# Altium schematic symbol library Resistor_0805.SchLib: 257 symbols (part 5 of 5)
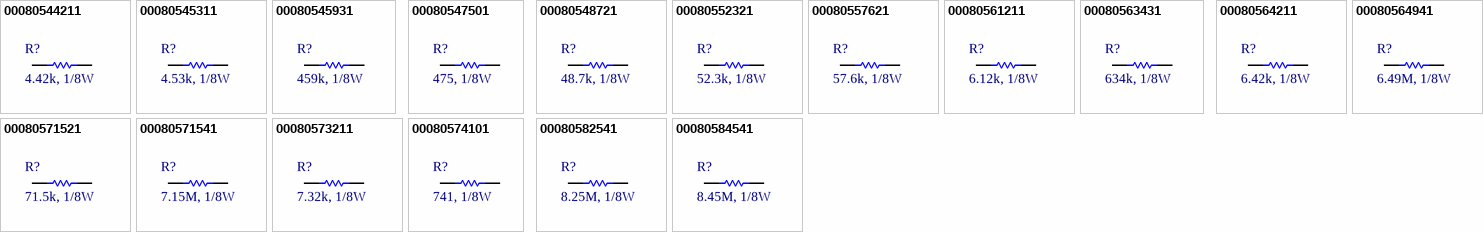
[diagram p10: symbols 00080544211 to 00080584541]

## 00080571521
designator R?, comment 71.5k, 1/8W
RES, 71.5k Ohm, size 0805, 1%; Resistance: 71.5 kOhms; Resistance Tolerance: +/-1%; Mounting Technique: SMT; Supply 1 Name: Digi-Key; Supply 1 SN: 311-71.5KCRTR-ND; Supply 2 Name: Mouser; Supply 2 SN: 603-RT0805FRE0771K5L; Size: 0805; Rated Power: 1/8W; Supply 1 URL: https://www.digikey.com/en/products/detail/yageo/RC0805FR-0771K5L/728125; Supply 2 URL: https://www.mouser.vn/ProductDetail/YAGEO/RT0805FRE0771K5L?qs=yNCrj0CQcyJ2X5%252BJTRHZxw%3D%3D
footprint RESC2012X04N (Chip Resistor, 2-Leads, Body 2,00x1,20mm, IPC Medium Density)
pins: 1, 2

## 00080571541
designator R?, comment 7.15M, 1/8W
RES, 7.15M Ohm, size 0805, 1%; Resistance: 7.15 MOhms; Resistance Tolerance: +/-1%; Mounting Technique: SMT; Supply 1 Name: Digi-Key; Supply 1 SN: 311-7.15MCRTR-ND; Size: 0805; Rated Power: 1/8W; Supply 1 URL: https://www.digikey.com/en/products/detail/yageo/RC0805FR-077M15L/728111; Supply 2 Name: *; Supply 2 SN: *; Supply 2 URL: *
footprint RESC2012X04N (Chip Resistor, 2-Leads, Body 2,00x1,20mm, IPC Medium Density)
pins: 1, 2

## 00080573211
designator R?, comment 7.32k, 1/8W
RES, 7.32k Ohm, size 0805, 1%; Resistance: 7.32 kOhms; Resistance Tolerance: +/-1%; Mounting Technique: SMT; Supply 1 Name: Digi-Key; Supply 1 SN: 311-7.32KCRTR-ND; Supply 2 Name: Mouser; Supply 2 SN: 603-RT0805FRE077K32L; Size: 0805; Rated Power: 1/8W; Supply 1 URL: https://www.digikey.com/en/products/detail/yageo/RC0805FR-077K32L/728113; Supply 2 URL: https://www.mouser.vn/ProductDetail/YAGEO/RT0805FRE077K32L?qs=yNCrj0CQcyL5VeJfozhHUw%3D%3D
footprint RESC2012X04N (Chip Resistor, 2-Leads, Body 2,00x1,20mm, IPC Medium Density)
pins: 1, 2

## 00080574101
designator R?, comment 741, 1/8W
RES, 741 Ohm, size 0805, 1%; Resistance: 741 Ohms; Resistance Tolerance: +/-1%; Mounting Technique: SMT; Supply 1 Name: Digi-Key; Supply 1 SN: 2019-RN73R2ATTD7410F100TR-ND; Size: 0805; Rated Power: 1/8W; Supply 1 URL: https://www.digikey.com/en/products/detail/koa-speer-electronics-inc/RN73R2ATTD7410F100/10036662; Supply 2 Name: *; Supply 2 SN: *; Supply 2 URL: *
footprint RESC2012X04N (Chip Resistor, 2-Leads, Body 2,00x1,20mm, IPC Medium Density)
pins: 1, 2

## 00080582541
designator R?, comment 8.25M, 1/8W
RES, 8.25M Ohm, size 0805, 1%; Resistance: 8.25 MOhms; Resistance Tolerance: +/-1%; Mounting Technique: SMT; Supply 1 Name: Digi-Key; Supply 1 SN: 311-8.25MCRTR-ND; Size: 0805; Rated Power: 1/8W; Supply 1 URL: https://www.digikey.com/en/products/detail/yageo/RC0805FR-078M25L/728150; Supply 2 Name: *; Supply 2 SN: *; Supply 2 URL: *
footprint RESC2012X04N (Chip Resistor, 2-Leads, Body 2,00x1,20mm, IPC Medium Density)
pins: 1, 2

## 00080584541
designator R?, comment 8.45M, 1/8W
RES, 8.45M Ohm, size 0805, 1%; Resistance: 8.45 MOhms; Resistance Tolerance: +/-1%; Mounting Technique: SMT; Supply 1 Name: Digi-Key; Supply 1 SN: 311-8.45MCRTR-ND; Size: 0805; Rated Power: 1/8W; Supply 1 URL: https://www.digikey.com/en/products/detail/yageo/RC0805FR-078M45L/728153; Supply 2 Name: *; Supply 2 SN: *; Supply 2 URL: *
footprint RESC2012X04N (Chip Resistor, 2-Leads, Body 2,00x1,20mm, IPC Medium Density)
pins: 1, 2